# EAGLE library part STM32L100 (library Protofusion)
IC MCU 32BIT 128KB FLASH 64LQFP
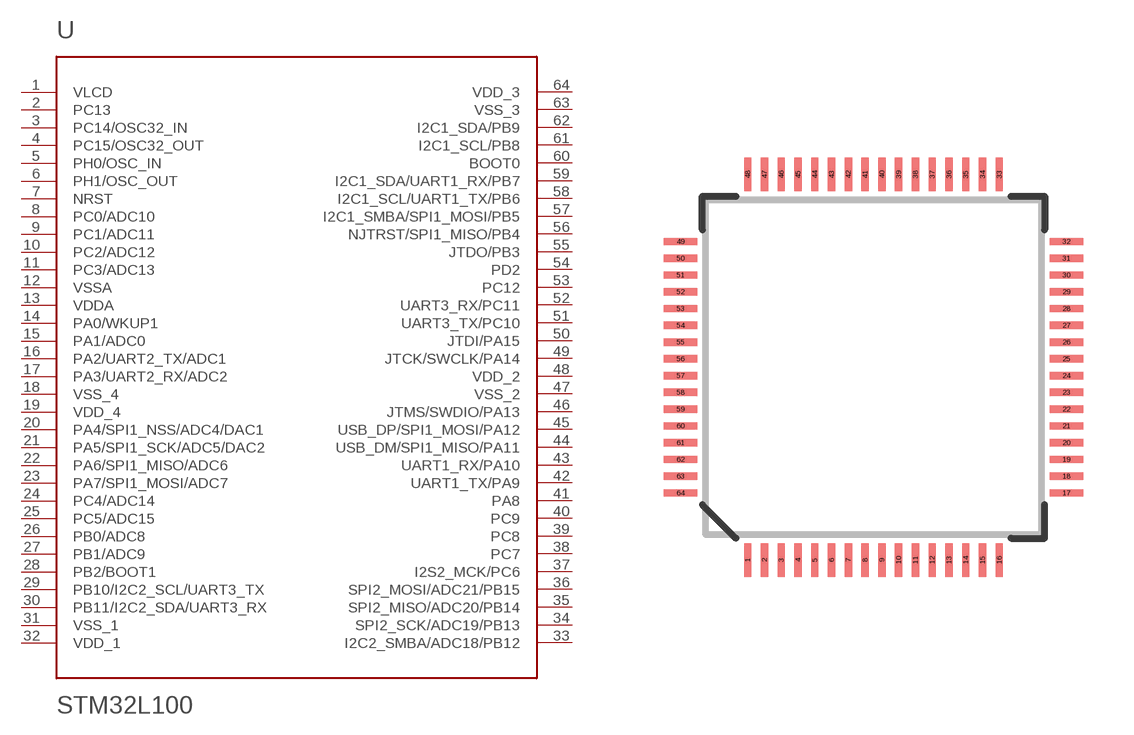
[diagram p10: symbol with the pads of TQFP64; footprint TQFP64]

Designator prefix -

## STM32L100  [TQFP64]
1  VLCD  pwr
2  PC13
3  PC14/OSC32_IN
4  PC15/OSC32_OUT
5  PH0/OSC_IN  in
6  PH1/OSC_OUT  out
7  NRST
8  PC0/ADC10
9  PC1/ADC11
10  PC2/ADC12
11  PC3/ADC13
12  VSSA  pwr
13  VDDA  pwr
14  PA0/WKUP1
15  PA1/ADC0
16  PA2/UART2_TX/ADC1
17  PA3/UART2_RX/ADC2
18  VSS_4  pwr
19  VDD_4  pwr
20  PA4/SPI1_NSS/ADC4/DAC1
21  PA5/SPI1_SCK/ADC5/DAC2
22  PA6/SPI1_MISO/ADC6
23  PA7/SPI1_MOSI/ADC7
24  PC4/ADC14
25  PC5/ADC15
26  PB0/ADC8
27  PB1/ADC9
28  PB2/BOOT1
29  PB10/I2C2_SCL/UART3_TX
30  PB11/I2C2_SDA/UART3_RX
31  VSS_1  pwr
32  VDD_1  pwr
33  I2C2_SMBA/ADC18/PB12
34  SPI2_SCK/ADC19/PB13
35  SPI2_MISO/ADC20/PB14
36  SPI2_MOSI/ADC21/PB15
37  I2S2_MCK/PC6
38  PC7
39  PC8
40  PC9
41  PA8
42  UART1_TX/PA9
43  UART1_RX/PA10
44  USB_DM/SPI1_MISO/PA11
45  USB_DP/SPI1_MOSI/PA12
46  JTMS/SWDIO/PA13
47  VSS_2  pwr
48  VDD_2  pwr
49  JTCK/SWCLK/PA14
50  JTDI/PA15
51  UART3_TX/PC10
52  UART3_RX/PC11
53  PC12
54  PD2
55  JTDO/PB3
56  NJTRST/SPI1_MISO/PB4
57  I2C1_SMBA/SPI1_MOSI/PB5
58  I2C1_SCL/UART1_TX/PB6
59  I2C1_SDA/UART1_RX/PB7
60  BOOT0  in
61  I2C1_SCL/PB8
62  I2C1_SDA/PB9
63  VSS_3  pwr
64  VDD_3  pwr

## Footprint TQFP64 (pad centres in mm)
smd 0.22 x 1: 1 -3.75,-5.75; 2 -3.25,-5.75; 3 -2.75,-5.75; 4 -2.25,-5.75; 5 -1.75,-5.75; 6 -1.25,-5.75; 7 -0.75,-5.75; 8 -0.25,-5.75; 9 0.25,-5.75; 10 0.75,-5.75; 11 1.25,-5.75; 12 1.75,-5.75; 13 2.25,-5.75; 14 2.75,-5.75; 15 3.25,-5.75; 16 3.75,-5.75; 33 3.75,5.75; 34 3.25,5.75; 35 2.75,5.75; 36 2.25,5.75; 37 1.75,5.75; 38 1.25,5.75; 39 0.75,5.75; 40 0.25,5.75; 41 -0.25,5.75; 42 -0.75,5.75; 43 -1.25,5.75; 44 -1.75,5.75; 45 -2.25,5.75; 46 -2.75,5.75; 47 -3.25,5.75; 48 -3.75,5.75
smd 1 x 0.22: 17 5.75,-3.75; 18 5.75,-3.25; 19 5.75,-2.75; 20 5.75,-2.25; 21 5.75,-1.75; 22 5.75,-1.25; 23 5.75,-0.75; 24 5.75,-0.25; 25 5.75,0.25; 26 5.75,0.75; 27 5.75,1.25; 28 5.75,1.75; 29 5.75,2.25; 30 5.75,2.75; 31 5.75,3.25; 32 5.75,3.75; 49 -5.75,3.75; 50 -5.75,3.25; 51 -5.75,2.75; 52 -5.75,2.25; 53 -5.75,1.75; 54 -5.75,1.25; 55 -5.75,0.75; 56 -5.75,0.25; 57 -5.75,-0.25; 58 -5.75,-0.75; 59 -5.75,-1.25; 60 -5.75,-1.75; 61 -5.75,-2.25; 62 -5.75,-2.75; 63 -5.75,-3.25; 64 -5.75,-3.75